# Altium footprint library SparkFun-IC-Conversion.PCBLIB: 8 footprints
Each footprint in its own frame and in the unit in brackets; x right, y up, seen from the top. Pads: shape width x height; smd on the part's side, far side on the other; paste and mask are expansions set on the pad; w line width, h text height; cw(c..) or ccw(c..) is an arc to the next point about the centre after c.
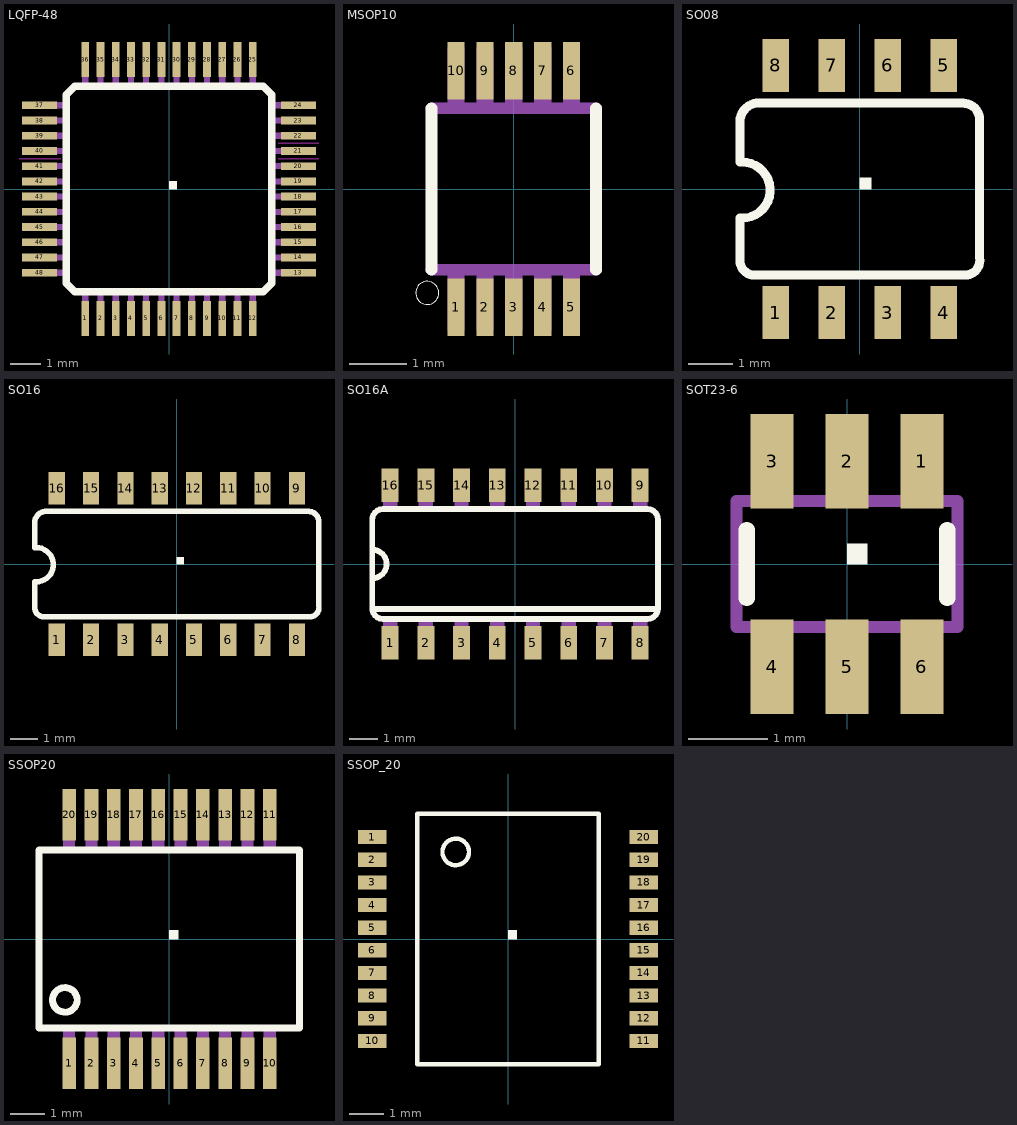
[diagram p0: the footprints below, top view; thin cyan lines are the x and y axes]

## LQFP-48 [mil]
pads (48):
  rect 10x45 smd: 1(-108.27,-167.32) 2(-88.58,-167.32) 3(-68.9,-167.32) 4(-49.21,-167.32) 5(-29.53,-167.32) 6(-9.84,-167.32) 7(9.84,-167.32) 8(29.53,-167.32) 9(49.21,-167.32) 10(68.9,-167.32) 11(88.58,-167.32) 12(108.27,-167.32) 25(108.27,167.32) 26(88.58,167.32) 27(68.9,167.32) 28(49.21,167.32) 29(29.53,167.32) 30(9.84,167.32) 31(-9.84,167.32) 32(-29.53,167.32) 33(-49.21,167.32) 34(-68.9,167.32) 35(-88.58,167.32) 36(-108.27,167.32)
  rect 45x10 smd: 13(167.32,-108.27) 14(167.32,-88.58) 15(167.32,-68.9) 16(167.32,-49.21) 17(167.32,-29.53) 18(167.32,-9.84) 19(167.32,9.84) 20(167.32,29.53) 21(167.32,49.21) 22(167.32,68.9) 23(167.32,88.58) 24(167.32,108.27) 37(-167.32,108.27) 38(-167.32,88.58) 39(-167.32,68.9) 40(-167.32,49.21) 41(-167.32,29.53) 42(-167.32,9.84) 43(-167.32,-9.84) 44(-167.32,-29.53) 45(-167.32,-49.21) 46(-167.32,-68.9) 47(-167.32,-88.58) 48(-167.32,-108.27)
Top Layer keep-out:
  rectangle: 141,58 194,60
  rectangle: 141,38 194,40
  rectangle: -194,38 -140,40
Top Overlay:
  region: 0,0 10,0 10,10 0,10
  lines w10: -132.87,-122.05 -122.05,-132.87 122.05,-132.87 132.87,-122.05 132.87,122.05 122.05,132.87 -122.05,132.87 -132.87,122.05 -132.87,-122.05
Mechanical 16:
  rectangle: -112.2,-177.17 -104.33,-135.83
  rectangle: -92.52,-177.17 -84.65,-135.83
  rectangle: -72.83,-177.17 -64.96,-135.83
  rectangle: -53.15,-177.17 -45.28,-135.83
  rectangle: -33.46,-177.17 -25.59,-135.83
  rectangle: -13.78,-177.17 -5.91,-135.83
  rectangle: 5.91,-177.17 13.78,-135.83
  rectangle: 25.59,-177.17 33.46,-135.83
  rectangle: 45.28,-177.17 53.15,-135.83
  rectangle: 64.96,-177.17 72.83,-135.83
  rectangle: 84.65,-177.17 92.52,-135.83
  rectangle: 104.33,-177.17 112.2,-135.83
  rectangle: 135.83,-112.2 177.17,-104.33
  rectangle: 135.83,-92.52 177.17,-84.65
  rectangle: 135.83,-72.83 177.17,-64.96
  rectangle: 135.83,-53.15 177.17,-45.28
  rectangle: 135.83,-33.46 177.17,-25.59
  rectangle: 135.83,-13.78 177.17,-5.91
  rectangle: 135.83,5.91 177.17,13.78
  rectangle: 135.83,25.59 177.17,33.46
  rectangle: 135.83,45.28 177.17,53.15
  rectangle: 135.83,64.96 177.17,72.83
  rectangle: 135.83,84.65 177.17,92.52
  rectangle: 135.83,104.33 177.17,112.2
  rectangle: 104.33,135.83 112.2,177.17
  rectangle: 84.65,135.83 92.52,177.17
  rectangle: 64.96,135.83 72.83,177.17
  rectangle: 45.28,135.83 53.15,177.17
  rectangle: 25.59,135.83 33.46,177.17
  rectangle: 5.91,135.83 13.78,177.17
  rectangle: -13.78,135.83 -5.91,177.17
  rectangle: -33.46,135.83 -25.59,177.17
  rectangle: -53.15,135.83 -45.28,177.17
  rectangle: -72.83,135.83 -64.96,177.17
  rectangle: -92.52,135.83 -84.65,177.17
  rectangle: -112.2,135.83 -104.33,177.17
  rectangle: -177.17,104.33 -135.83,112.2
  rectangle: -177.17,84.65 -135.83,92.52
  rectangle: -177.17,64.96 -135.83,72.83
  rectangle: -177.17,45.28 -135.83,53.15
  rectangle: -177.17,25.59 -135.83,33.46
  rectangle: -177.17,5.91 -135.83,13.78
  rectangle: -177.17,-13.78 -135.83,-5.91
  rectangle: -177.17,-33.46 -135.83,-25.59
  rectangle: -177.17,-53.15 -135.83,-45.28
  rectangle: -177.17,-72.83 -135.83,-64.96
  rectangle: -177.17,-92.52 -135.83,-84.65
  rectangle: -177.17,-112.2 -135.83,-104.33

## MSOP10 [mm]
pads (10):
  rect 0.3x1 smd: 1(-1,-2.05) 2(-0.5,-2.05) 3(0,-2.05) 4(0.5,-2.05) 5(1,-2.05) 6(1,2.05) 7(0.5,2.05) 8(0,2.05) 9(-0.5,2.05) 10(-1,2.05)
Top Overlay:
  circle w0: c-1.5,-1.8 r0.2
  lines w0.203: -1.425,-1.4 -1.425,1.4 ; 1.425,-1.4 1.425,1.4
Top Paste:
  rectangle: -1.125,-2.5 -0.875,-1.625
  rectangle: -0.625,-2.5 -0.375,-1.625
  rectangle: -0.125,-2.5 0.125,-1.625
  rectangle: 0.375,-2.5 0.625,-1.625
  rectangle: 0.875,-2.5 1.125,-1.625
  region: 1.125,2.5 0.875,2.5 0.875,1.625 1.125,1.625
  region: 0.625,2.5 0.375,2.5 0.375,1.625 0.625,1.625
  region: 0.125,2.5 -0.125,2.5 -0.125,1.625 0.125,1.625
  region: -0.375,2.5 -0.625,2.5 -0.625,1.625 -0.375,1.625
  region: -0.875,2.5 -1.125,2.5 -1.125,1.625 -0.875,1.625
Top Solder:
  rectangle: -1.2,-2.6 -0.8,-1.5
  rectangle: -0.7,-2.6 -0.3,-1.5
  rectangle: -0.2,-2.6 0.2,-1.5
  rectangle: 0.3,-2.6 0.7,-1.5
  rectangle: 0.8,-2.6 1.2,-1.5
  region: 1.2,2.6 0.8,2.6 0.8,1.5 1.2,1.5
  region: 0.7,2.6 0.3,2.6 0.3,1.5 0.7,1.5
  region: 0.2,2.6 -0.2,2.6 -0.2,1.5 0.2,1.5
  region: -0.3,2.6 -0.7,2.6 -0.7,1.5 -0.3,1.5
  region: -0.8,2.6 -1.2,2.6 -1.2,1.5 -0.8,1.5
Mechanical 16:
  rectangle: -1.15,-2.45 -0.85,-1.475
  rectangle: -0.65,-2.45 -0.35,-1.475
  rectangle: -0.15,-2.45 0.15,-1.475
  rectangle: 0.35,-2.45 0.65,-1.475
  rectangle: 0.85,-2.45 1.15,-1.475
  region: 1.15,2.45 0.85,2.45 0.85,1.475 1.15,1.475
  region: 0.65,2.45 0.35,2.45 0.35,1.475 0.65,1.475
  region: 0.15,2.45 -0.15,2.45 -0.15,1.475 0.15,1.475
  region: -0.35,2.45 -0.65,2.45 -0.65,1.475 -0.35,1.475
  region: -0.85,2.45 -1.15,2.45 -1.15,1.475 -0.85,1.475
  lines w0.203: -1.425,-1.4 1.425,-1.4 ; -1.425,1.4 1.425,1.4

## SO08 [mil]
pads (8):
  rect 23.62x47.24 smd: 1(-75,-110.24) 2(-25,-110.24) 3(25,-110.24) 4(75,-110.24) 5(75,110.24) 6(25,110.24) 7(-25,110.24) 8(-75,110.24)
Top Overlay:
  region: 0,0 10,0 10,10 0,10
  lines w8: -107,-26 -107,-65.56 ccw(c-93.97,-63.6) -92,-76.63 95.94,-76.63 ccw(c93.97,-63.6) 107,-61.63 107,61.63 ccw(c92,61.63) 92,76.63 -92,76.63 ccw(c-90.03,59.66) -107,57.69 ; -107,24 -107,57.19 ; -105,-26 ccw(c-105,-1) -105,24
Mechanical 16:
  rectangle: -85,-130 -65,-89.5
  rectangle: -35,-130 -15,-89.5
  rectangle: 15,-130 35,-89.5
  rectangle: 65,-130 85,-89.5
  rectangle: -35,90 -15,130
  rectangle: 15,90 35,130
  rectangle: 65,90 85,130
  rectangle: -85,90 -65,130

## SO16 [mil]
pads (16):
  rect 23.62x47.24 smd: 1(-175,-110.24) 2(-125,-110.24) 3(-75,-110.24) 4(-25,-110.24) 5(25,-110.24) 6(75,-110.24) 7(125,-110.24) 8(175,-110.24) 9(175,110.24) 10(125,110.24) 11(75,110.24) 12(25,110.24) 13(-25,110.24) 14(-75,110.24) 15(-125,110.24) 16(-175,110.24)
Top Overlay:
  region: 0,0 10,0 10,10 0,10
  lines w8: -207,-26 -207,-65.56 ccw(c-193.97,-63.6) -192,-76.63 195.94,-76.63 ccw(c193.97,-63.6) 207,-61.63 207,61.63 ccw(c192,61.63) 192,76.63 -192,76.63 ccw(c-190.03,59.66) -207,57.69 ; -207,24 -207,57.19 ; -205,-26 ccw(c-205,-1) -205,24
Mechanical 16:
  rectangle: -185,-130 -165,-89.5
  rectangle: -135,-130 -115,-89.5
  rectangle: -85,-130 -65,-89.5
  rectangle: -35,-130 -15,-89.5
  rectangle: 15,-130 35,-89.5
  rectangle: 65,-130 85,-89.5
  rectangle: 115,-130 135,-89.5
  rectangle: 165,-130 185,-89.5
  rectangle: -135,90 -115,130
  rectangle: -85,90 -65,130
  rectangle: -35,90 -15,130
  rectangle: 15,90 35,130
  rectangle: 65,90 85,130
  rectangle: 115,90 135,130
  rectangle: 165,90 185,130
  rectangle: -185,90 -165,130

## SO16A [mil]
pads (16):
  rect 23.62x47.24 smd: 1(-175,-110.24) 2(-125,-110.24) 3(-75,-110.24) 4(-25,-110.24) 5(25,-110.24) 6(75,-110.24) 7(125,-110.24) 8(175,-110.24) 9(175,110.24) 10(125,110.24) 11(75,110.24) 12(25,110.24) 13(-25,110.24) 14(-75,110.24) 15(-125,110.24) 16(-175,110.24)
Top Overlay:
  lines w8: -200,-63 200,-63 ; -200,-20 -200,20 ; -200,-20 -200,-62 ccw(c-185,-62) -185,-77 185,-77 ccw(c185,-62) 200,-62 200,62 ccw(c185,62) 185,77 -185,77 ccw(c-185,62) -200,62 -200,20 ; -200,-20 ccw(c-200,0) -200,20
Mechanical 16:
  rectangle: -35,77 -15,122
  rectangle: -185,-122 -165,-77
  rectangle: -135,-122 -115,-77
  rectangle: -85,-121 -65,-76
  rectangle: -35,-122 -15,-77
  rectangle: -85,77 -65,122
  rectangle: -135,77 -115,122
  rectangle: -185,77 -165,122
  rectangle: 15,-122 35,-77
  rectangle: 65,-122 85,-77
  rectangle: 115,-122 135,-77
  rectangle: 165,-122 185,-77
  rectangle: 15,77 35,122
  rectangle: 65,77 85,122
  rectangle: 115,77 135,122
  rectangle: 165,77 185,122

## SOT23-6 [mil]
pads (6):
  rect 21.65x47.24 smd: 1(37.4,51.19) 2(0,51.19) 3(-37.4,51.19) 4(-37.4,-51.19) 5(0,-51.19) 6(37.4,-51.19)
Top Overlay:
  region: 0,0 10,0 10,10 0,10
  lines w8: -50,-16.91 -50,16.91 ; 50,-16.91 50,16.91
Mechanical 16:
  rectangle: -47.24,-59.06 -27.56,-33.46
  rectangle: -9.84,-59.06 9.84,-33.46
  rectangle: 27.56,-59.06 47.24,-33.46
  rectangle: 27.56,33.46 47.24,59.06
  rectangle: -47.24,33.46 -27.56,59.06
  region: 9.84,59.06 -9.84,59.06 -9.84,33.46 9.84,33.46
  lines w6: -55.12,-31.5 55.12,-31.5 55.12,31.5 -55.12,31.5 -55.12,-31.5

## SSOP20 [mil]
pads (20):
  rect 15.75x59.06 smd: 1(-115.16,-142.72) 2(-89.57,-142.72) 3(-63.98,-142.72) 4(-38.39,-142.72) 5(-12.8,-142.72) 6(12.8,-142.72) 7(38.39,-142.72) 8(63.98,-142.72) 9(89.57,-142.72) 10(115.16,-142.72) 11(115.16,142.72) 12(89.57,142.72) 13(63.98,142.72) 14(38.39,142.72) 15(12.8,142.72) 16(-12.8,142.72) 17(-38.39,142.72) 18(-63.98,142.72) 19(-89.57,142.72) 20(-115.16,142.72)
Top Overlay:
  circle w8: c-120,-70 r14.14
  region: 0,0 10,0 10,10 0,10
  lines w5: -150.59,101.38 -149.61,101.38
  lines w8: -149.61,101.38 -149.61,-102.36 149.61,-102.36 149.61,102.36 -149.61,102.36
Mechanical 16:
  rectangle: -122.16,-155 -108.16,-104
  rectangle: -96.57,-155 -82.57,-104
  rectangle: -70.98,-155 -56.98,-104
  rectangle: -45.39,-155 -31.39,-104
  rectangle: -19.8,-155 -5.8,-104
  rectangle: 5.79,-155 19.79,-104
  rectangle: 31.38,-155 45.38,-104
  rectangle: 56.98,-155 70.98,-104
  rectangle: 82.57,-155 96.57,-104
  rectangle: 108.16,-155 122.16,-104
  rectangle: 108.15,104 122.15,155
  rectangle: 82.56,104 96.56,155
  rectangle: 56.97,104 70.97,155
  rectangle: 31.39,104 45.39,155
  rectangle: 5.8,104 19.8,155
  rectangle: -19.79,104 -5.79,155
  rectangle: -45.38,104 -31.38,155
  rectangle: -70.97,104 -56.97,155
  rectangle: -96.56,104 -82.56,155
  rectangle: -122.15,104 -108.15,155

## SSOP_20 [mil]
pads (20):
  rect 32x16 smd: 1(-153.54,115.16) 2(-153.54,89.57) 3(-153.54,63.98) 4(-153.54,38.39) 5(-153.54,12.8) 6(-153.54,-12.8) 7(-153.54,-38.39) 8(-153.54,-63.98) 9(-153.54,-89.57) 10(-153.54,-115.16) 11(153.54,-115.16) 12(153.54,-89.57) 13(153.54,-63.98) 14(153.54,-38.39) 15(153.54,-12.8) 16(153.54,12.8) 17(153.54,38.39) 18(153.54,63.98) 19(153.54,89.57) 20(153.54,115.16)
Top Overlay:
  circle w5: c-59.06,98.43 r15
  region: 0,0 10,0 10,10 0,10
  lines w5: -102.36,-141.73 102.36,-141.73 102.36,141.73 -102.36,141.73 -102.36,-141.73